# EAGLE library part LED_RGB_6P (library Intar_Eagle_Library)
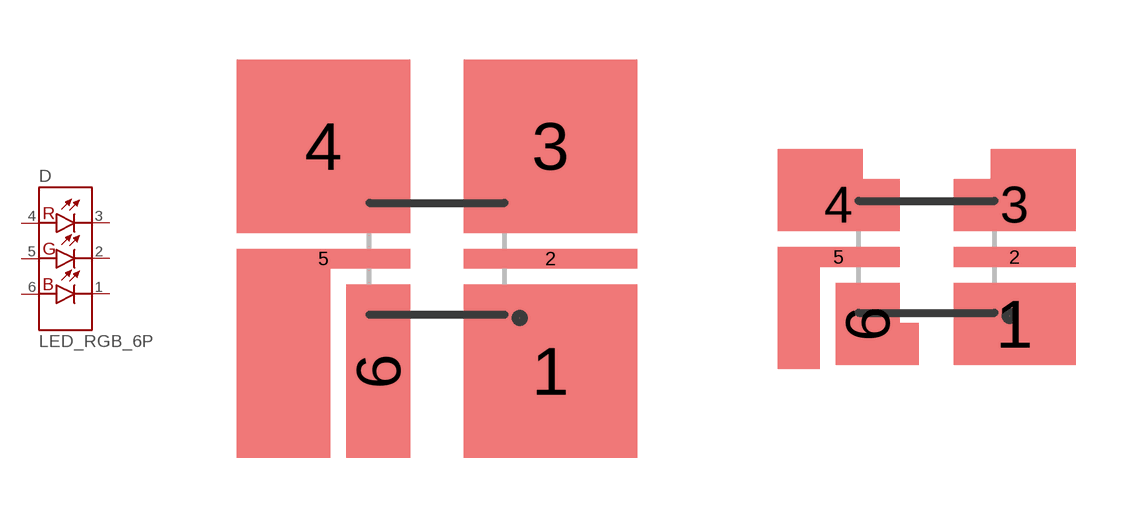
[diagram p1: symbol with the pads of ASMT-YTB7-0AA02; footprints ASMT-YTB7-0AA02, ASMT-YTB7-0AA02_M]

Designator prefix D

## LED_RGB_6PASMT  [ASMT-YTB7-0AA02]
1  B_C  pas
2  G_C  pas
3  R_C  pas
4  R_A  pas
5  G_A  pas
6  B_A  pas

## LED_RGB_6PASMT_M  [ASMT-YTB7-0AA02_M]
Pads as for ASMT-YTB7-0AA02

## Footprint ASMT-YTB7-0AA02 (pad centres in mm)
smd 4.35 x 4.35: 1 2.85,-2.825; 3 2.85,2.825; 4 -2.85,2.825
smd 4.35 x 0.5: 2 2.85,0; 5 -2.85,0
smd 1.6 x 4.35: 6 -1.475,-2.825

## Footprint ASMT-YTB7-0AA02_M (pad centres in mm)
smd 3.05 x 2.05: 1 2.2,-1.675
smd 3.05 x 0.5: 2 2.2,0; 5 -2.2,0
smd 3.05 x 1.3: 3 2.2,1.3; 4 -2.2,1.3
smd 1.6 x 2.05: 6 -1.475,-1.675